# Altium footprint library PcbLib1.PcbLib: 7 footprints
Each footprint in its own frame and in the unit in brackets; x right, y up, seen from the top. Pads: shape width x height; smd on the part's side, far side on the other; paste and mask are expansions set on the pad; w line width, h text height; cw(c..) or ccw(c..) is an arc to the next point about the centre after c.
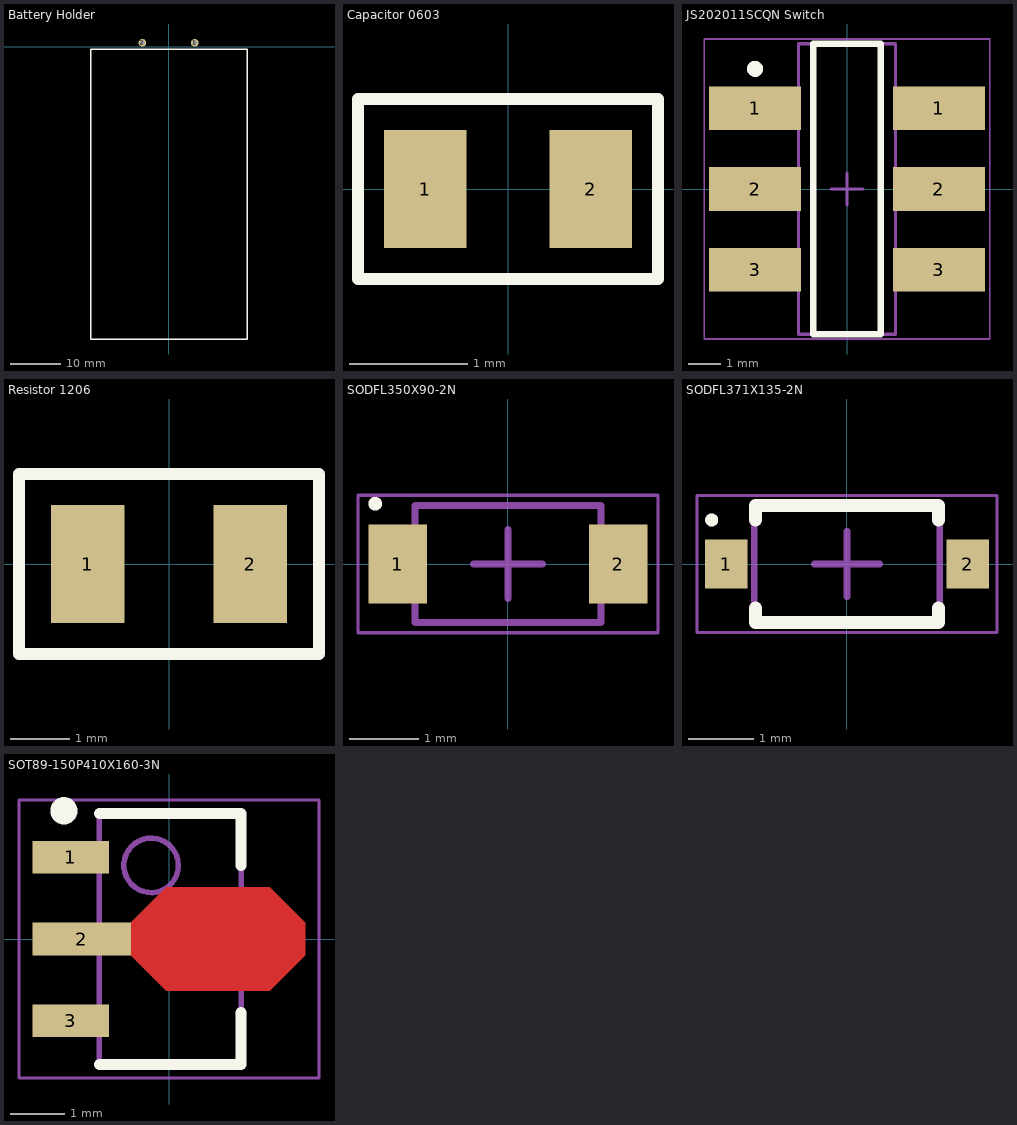
[diagram p0: the footprints below, top view; thin cyan lines are the x and y axes]

## Battery Holder [mil]
pads (2):
  round 60 hole 33.46: 1(204.72,30) 2(-204.72,30)
Top Overlay:
  lines w10: -610.63,-2287.4 -610.63,-19.68 617.72,-19.68 617.72,-2287.4 -610.63,-2287.4

## Capacitor 0603 [mm]
pads (2):
  rect 0.7x1 smd: 1(-0.7,0) 2(0.7,0)
Top Overlay:
  lines w0.1: -1.27,-0.762 -1.27,0.22 -1.27,0.762 1.27,0.762 1.27,-0.762 -1.27,-0.762

## JS202011SCQN Switch [mm] "SOTFL, 6-Leads, Body 9.00x8.00mm, Pitch 2.50mm, IPC Medium Density"
height 5.5
pads (6):
  rect 2.85x1.35 smd: 1(-2.85,2.5) 1(2.85,2.5) 2(-2.85,0) 2(2.85,0) 3(-2.85,-2.5) 3(2.85,-2.5)
Top Overlay:
  circle w0.25: c-2.85,3.725 r0.125
  lines w0.2: -1.05,-4.5 1.05,-4.5 1.05,4.5 -1.05,4.5 -1.05,-4.5
Mechanical 13:
  lines w0.1: -1.5,-4.5 -1.5,4.5 1.5,4.5 1.5,-4.5 -1.5,-4.5
Mechanical 15:
  lines w0.05: -4.425,-4.65 -4.425,4.65 4.425,4.65 4.425,-4.65 -4.425,-4.65
  lines w0.1: -0.5,0 0.5,0 ; 0,-0.5 0,0.5
3D body: height 5.5, standoff 0, extent -1.5,-4.5 1.5,4.5

## Resistor 1206 [mm]
pads (2):
  rect 1.25x2 smd: 1(-1.375,0) 2(1.375,0)
Top Overlay:
  lines w0.2: -2.54,-1.524 2.54,-1.524 2.54,1.524 -2.54,1.524 -2.54,0.46 -2.54,-1.524

## SODFL350X90-2N [mm] "SODFL, 2-Leads, Body 1.60x3.50mm, IPC Medium Density"
height 0.9
pads (2):
  rect 0.85x1.15 smd: 1(-1.6,0) 2(1.6,0)
Top Overlay:
  circle w0.1: c-1.925,0.875 r0.05
Mechanical 13:
  lines w0.1: -1.35,-0.85 1.35,-0.85 1.35,0.85 -1.35,0.85 -1.35,-0.85
Mechanical 15:
  lines w0.05: -2.175,-1 2.175,-1 2.175,1 -2.175,1 -2.175,-1
  lines w0.1: -0.5,0 0.5,0 ; 0,-0.5 0,0.5
3D body: height 0.9, standoff 0, extent -1.35,-0.85 1.35,0.85

## SODFL371X135-2N [mm] "SODFL, 2-Leads, Body 1.60x3.71mm, IPC Medium Density"
height 1.35
pads (2):
  rect 0.65x0.75 smd: 1(-1.85,0) 2(1.85,0)
Top Overlay:
  circle w0.1: c-2.075,0.675 r0.05
  lines w0.2: -1.4,-0.675 -1.4,-0.9 1.4,-0.9 1.4,-0.675 ; -1.4,0.675 -1.4,0.9 1.4,0.9 1.4,0.675
Mechanical 13:
  lines w0.1: -1.42,-0.9 1.42,-0.9 1.42,0.9 -1.42,0.9 -1.42,-0.9
Mechanical 15:
  lines w0.05: -2.3,-1.05 2.3,-1.05 2.3,1.05 -2.3,1.05 -2.3,-1.05
  lines w0.1: -0.5,0 0.5,0 ; 0,-0.5 0,0.5
3D body: height 1.35, standoff 0, extent -1.42,-0.9 1.42,0.9

## SOT89-150P410X160-3N [mm] "SOT89, 3-Leads, Body 4.50x2.45mm, Pitch 1.50mm, Lead Span 4.1mm, IPC Medium Density"
height 1.6
pads (3):
  rect 1.4x0.6 smd: 1(-1.8,1.5) 3(-1.8,-1.5)
  rect 1.8x0.6 smd: 2(-1.6,0)
Top Layer:
  region: -0.7,0.3 -0.05,0.95 1.85,0.95 2.5,0.3 2.5,-0.3 1.85,-0.95 -0.05,-0.95 -0.7,-0.3
Top Overlay:
  circle w0.25: c-1.927,2.35 r0.125
  lines w0.2: -1.278,-2.3 1.322,-2.3 1.322,-1.35 ; -1.278,2.3 1.322,2.3 1.322,1.35
Mechanical 13:
  circle w0.1: c-0.327,1.35 r0.5
  lines w0.1: -1.278,-2.3 1.322,-2.3 1.322,2.3 -1.278,2.3 -1.278,-2.3
Mechanical 15:
  lines w0.05: -2.75,-2.55 2.75,-2.55 2.75,2.55 -2.75,2.55 -2.75,-2.55
  lines w0.1: -0.477,0 0.523,0 ; 0.022,-0.5 0.022,0.5
3D body: height 1.6, standoff 0, extent -1.278,-2.3 1.322,2.3